# Altium footprint library anodepattern.PcbLib: 1 footprints
Each footprint in its own frame and in the unit in brackets; x right, y up, seen from the top. Pads: shape width x height; smd on the part's side, far side on the other; paste and mask are expansions set on the pad; w line width, h text height; cw(c..) or ccw(c..) is an arc to the next point about the centre after c.
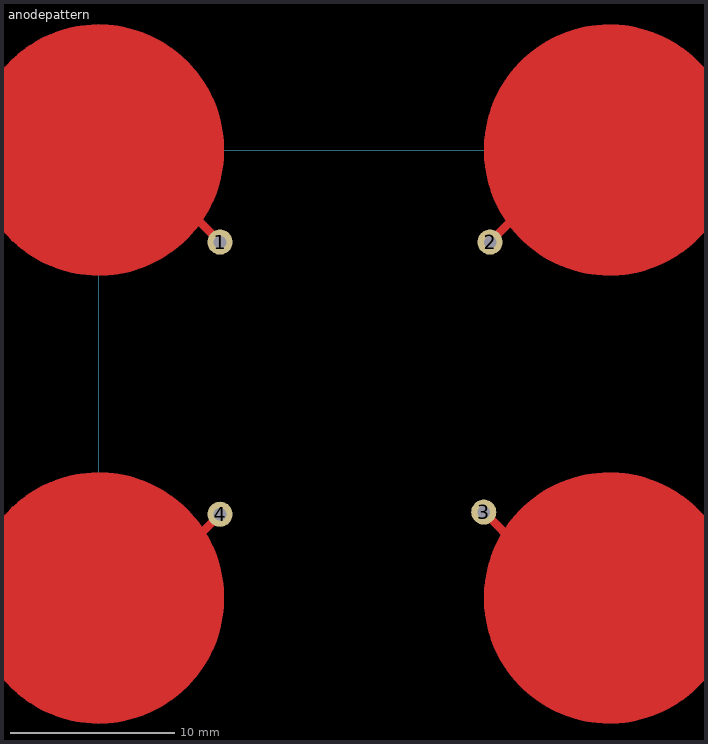
[diagram p0: the footprint, top view; thin cyan lines are the x and y axes]

## anodepattern [mil]
pads (4):
  round 60 hole 30: 1(290,-220) 2(935,-220) 3(920,-865) 4(290,-870)
Top Layer:
  circle w300: c0,0 r150
  circle w300: c1220,0 r150
  circle w300: c0,-1070 r150
  circle w300: c1220,-1070 r150
  lines w10: 215,-140 290,-215 290,-220 ; 225,-155 290,-220 ; 230,-915 240,-915 285,-870 290,-870 ; 290,-225 290,-220 ; 920,-875 920,-865 ; 935,-230 935,-220 ; 985,-935 920,-870 920,-865 ; 985,-930 920,-865 ; 935,-220 1000,-155 935,-220
  lines w20: -32.5,102.5 290,-220 ; 85,-1075 287.5,-872.5 ; 920,-865 1005,-950 ; 935,-220 1120,-35
Top Solder:
  circle w300: c1220,-1070 r150
  circle w300: c0,-1070 r150
  circle w300: c1220,0 r150
  circle w300: c0,0 r150